# EAGLE library part FT232HL (library bus-blaster-case)
Non-stock item, unproven FP for this part.
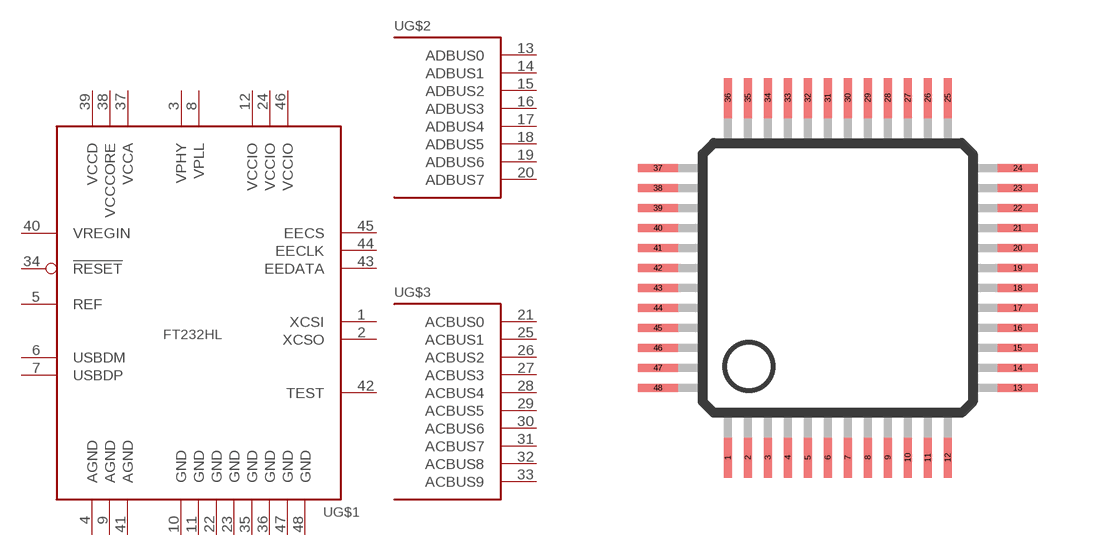
[diagram p0: symbol with the pads of LQFP48; footprint LQFP48]

Designator prefix -; gates G$1=232HCORE G$2=232HPORTD G$3=232HPORTC

## FT232HL  [LQFP48]
1  G$1:XCSI  in
2  G$1:XCSO  out
3  G$1:VPHY  pwr
4  G$1:AGND  pwr
5  G$1:REF  in
6  G$1:USBDM  in
7  G$1:USBDP  in
8  G$1:VPLL  pwr
9  G$1:AGND  pwr
10  G$1:GND  pwr
11  G$1:GND  pwr
12  G$1:VCCIO  pwr
13  G$2:ADBUS0
14  G$2:ADBUS1
15  G$2:ADBUS2
16  G$2:ADBUS3
17  G$2:ADBUS4
18  G$2:ADBUS5
19  G$2:ADBUS6
20  G$2:ADBUS7
21  G$3:ACBUS0
22  G$1:GND  pwr
23  G$1:GND  pwr
24  G$1:VCCIO  pwr
25  G$3:ACBUS1
26  G$3:ACBUS2
27  G$3:ACBUS3
28  G$3:ACBUS4
29  G$3:ACBUS5
30  G$3:ACBUS6
31  G$3:ACBUS7
32  G$3:ACBUS8
33  G$3:ACBUS9
34  G$1:!RESET  in
35  G$1:GND  pwr
36  G$1:GND  pwr
37  G$1:VCCA  pwr
38  G$1:VCCCORE  pwr
39  G$1:VCCD  pwr
40  G$1:VREGIN
41  G$1:AGND  pwr
42  G$1:TEST  in
43  G$1:EEDATA
44  G$1:EECLK  out
45  G$1:EECS
46  G$1:VCCIO  pwr
47  G$1:GND  pwr
48  G$1:GND  pwr

## Footprint LQFP48 (pad centres in mm)
smd 0.2 x 1: 1 -2.75,-4.5; 2 -2.25,-4.5; 3 -1.75,-4.5; 4 -1.25,-4.5; 5 -0.75,-4.5; 6 -0.25,-4.5; 7 0.25,-4.5; 8 0.75,-4.5; 9 1.25,-4.5; 10 1.75,-4.5; 11 2.25,-4.5; 12 2.75,-4.5; 25 2.75,4.5; 26 2.25,4.5; 27 1.75,4.5; 28 1.25,4.5; 29 0.75,4.5; 30 0.25,4.5; 31 -0.25,4.5; 32 -0.75,4.5; 33 -1.25,4.5; 34 -1.75,4.5; 35 -2.25,4.5; 36 -2.75,4.5
smd 1 x 0.2: 13 4.5,-2.75; 14 4.5,-2.25; 15 4.5,-1.75; 16 4.5,-1.25; 17 4.5,-0.75; 18 4.5,-0.25; 19 4.5,0.25; 20 4.5,0.75; 21 4.5,1.25; 22 4.5,1.75; 23 4.5,2.25; 24 4.5,2.75; 37 -4.5,2.75; 38 -4.5,2.25; 39 -4.5,1.75; 40 -4.5,1.25; 41 -4.5,0.75; 42 -4.5,0.25; 43 -4.5,-0.25; 44 -4.5,-0.75; 45 -4.5,-1.25; 46 -4.5,-1.75; 47 -4.5,-2.25; 48 -4.5,-2.75